# Altium schematic symbol library WE-AGDT.SchLib: 29 symbols
Pins are listed as number, name and electrical type; pins without a type are passive.

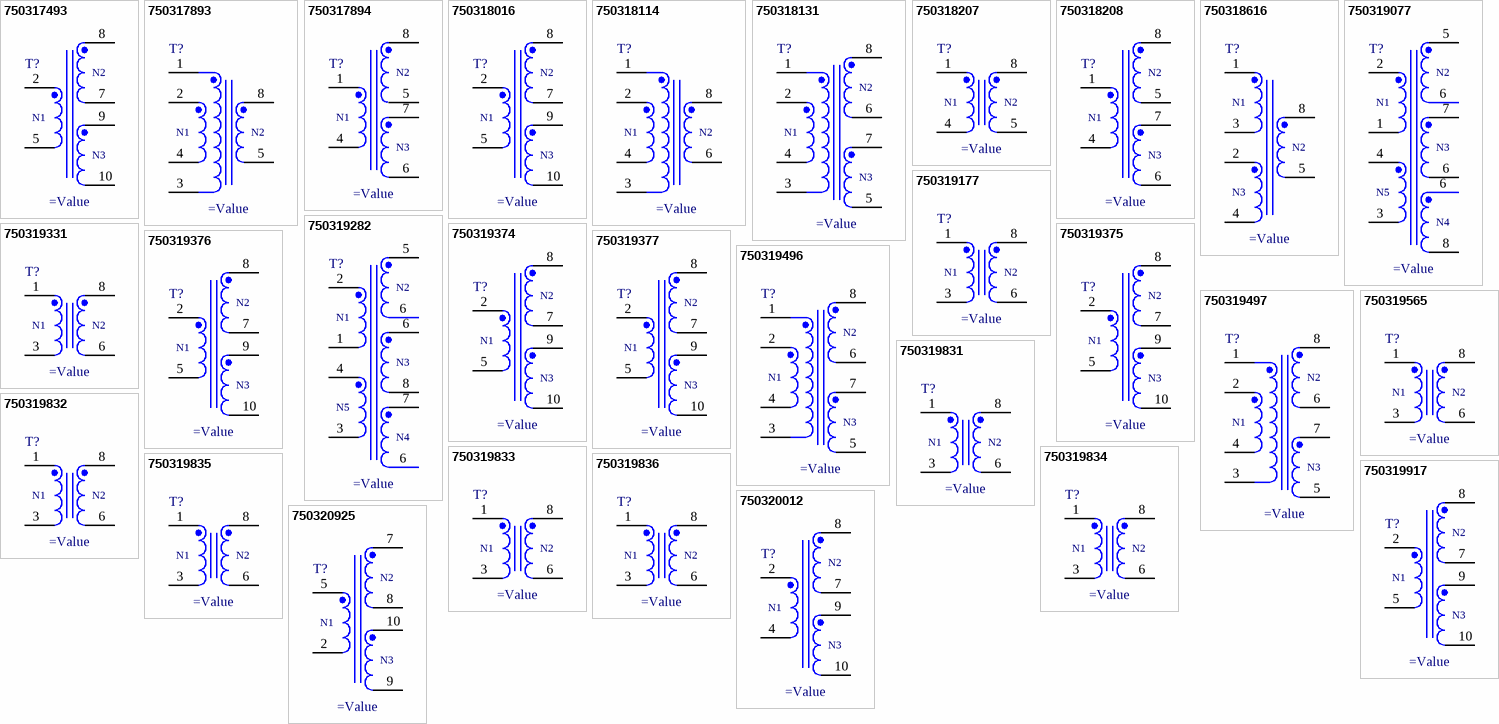
[diagram p0: symbols 750317493 to 750320925]

## 750317493
designator T?
pins: 2, 5, 7, 8, 9, 10
text: N2; N1; N3

## 750317893
designator T?
pins: 1, 2, 3, 4, 5, 8
text: N1; N2

## 750317894
designator T?
pins: 1, 4, 5, 6, 7, 8
text: N2; N1; N3

## 750318016
designator T?
pins: 2, 5, 7, 8, 9, 10
text: N2; N1; N3

## 750318114
designator T?
pins: 1, 2, 3, 4, 6, 8
text: N1; N2

## 750318131
designator T?
pins: 1, 2, 3, 4, 5, 6, 7, 8
text: N2; N1; N3

## 750318207
designator T?
pins: 1, 4, 5, 8
text: N1; N2

## 750318208
designator T?
pins: 1, 4, 5, 6, 7, 8
text: N2; N1; N3

## 750318616
designator T?
pins: 1, 2, 3, 4, 5, 8
text: N1; N2; N3

## 750319077
designator T?
pins: 1, 2, 3, 4, 5, 6, 7, 8
text: N2; N1; N3; N5; N4

## 750319177
designator T?
pins: 1, 3, 6, 8
text: N1; N2

## 750319282
designator T?
pins: 1, 2, 3, 4, 5, 6, 7, 8
text: N2; N1; N3; N5; N4

## 750319331
designator T?
pins: 1, 3, 6, 8
text: N1; N2

## 750319374
designator T?
pins: 2, 5, 7, 8, 9, 10
text: N2; N1; N3

## 750319375
designator T?
pins: 2, 5, 7, 8, 9, 10
text: N2; N1; N3

## 750319376
designator T?
pins: 2, 5, 7, 8, 9, 10
text: N2; N1; N3

## 750319377
designator T?
pins: 2, 5, 7, 8, 9, 10
text: N2; N1; N3

## 750319496
designator T?
pins: 1, 2, 3, 4, 5, 6, 7, 8
text: N2; N1; N3

## 750319497
designator T?
pins: 1, 2, 3, 4, 5, 6, 7, 8
text: N2; N1; N3

## 750319565
designator T?
pins: 1, 3, 6, 8
text: N1; N2

## 750319831
designator T?
pins: 1, 3, 6, 8
text: N1; N2

## 750319832
designator T?
pins: 1, 3, 6, 8
text: N1; N2

## 750319833
designator T?
pins: 1, 3, 6, 8
text: N1; N2

## 750319834
designator T?
pins: 1, 3, 6, 8
text: N1; N2

## 750319835
designator T?
pins: 1, 3, 6, 8
text: N1; N2

## 750319836
designator T?
pins: 1, 3, 6, 8
text: N1; N2

## 750319917
designator T?
pins: 2, 5, 7, 8, 9, 10
text: N2; N1; N3

## 750320012
designator T?
pins: 2, 4, 7, 8, 9, 10
text: N2; N1; N3

## 750320925
designator T?
pins: 2, 5, 7, 8, 9, 10
text: N2; N1; N3